# Altium footprint library SOD2513X114N.PcbLib: 1 footprints
Each footprint in its own frame and in the unit in brackets; x right, y up, seen from the top. Pads: shape width x height; smd on the part's side, far side on the other; paste and mask are expansions set on the pad; w line width, h text height; cw(c..) or ccw(c..) is an arc to the next point about the centre after c.
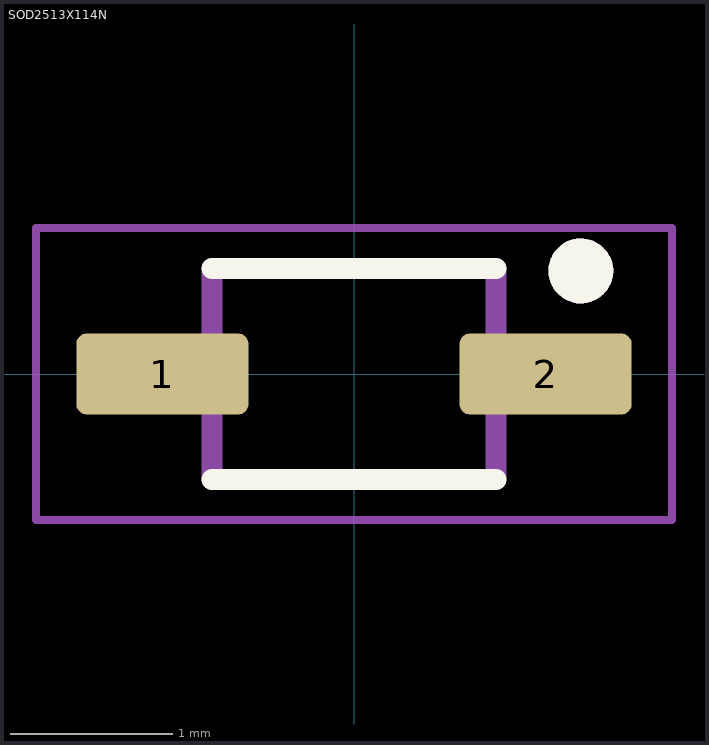
[diagram p0: the footprint, top view; thin cyan lines are the x and y axes]

## SOD2513X114N [mm]
pads (2):
  rrect25% 1.06x0.5 smd: 1(-1.18,0) 2(1.18,0)
Top Overlay:
  circle w0.2: c1.397,0.635 r0.1
  lines w0.127: -0.875,-0.65 0.875,-0.65 ; -0.875,0.65 0.875,0.65
Assembly Top:
  circle w0.2: c1.397,0.635 r0.1
  lines w0.127: -0.875,-0.65 -0.875,0.65 0.875,0.65 0.875,-0.65 -0.875,-0.65
Top Courtyard:
  lines w0.05: -1.96,-0.9 -1.96,0.9 1.96,0.9 1.96,-0.9 -1.96,-0.9